# Altium footprint library 1206 - Sense.PcbLib: 1 footprints
Each footprint in its own frame and in the unit in brackets; x right, y up, seen from the top. Pads: shape width x height; smd on the part's side, far side on the other; paste and mask are expansions set on the pad; w line width, h text height; cw(c..) or ccw(c..) is an arc to the next point about the centre after c.
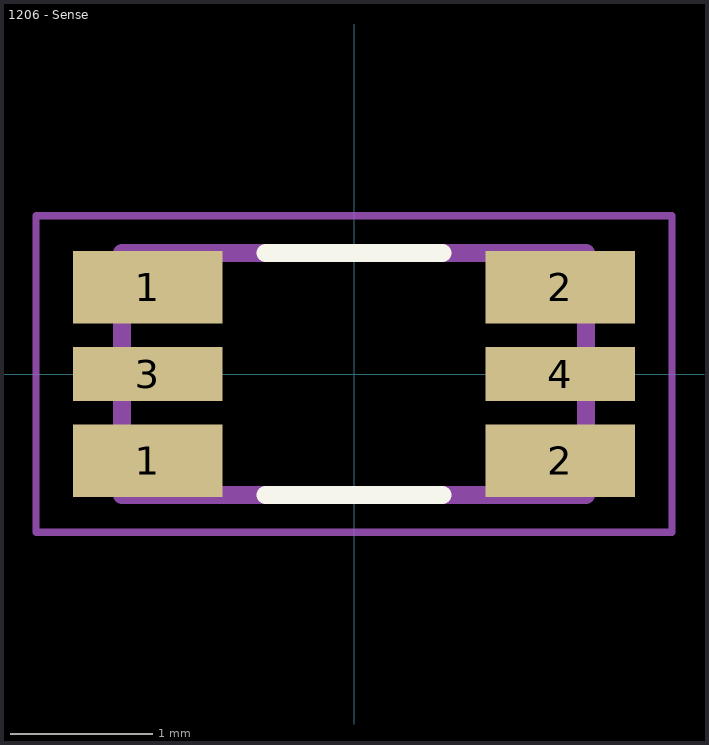
[diagram p0: the footprint, top view; thin cyan lines are the x and y axes]

## 1206 - Sense [mil] "4-Wire Sense Footprint"
pads (6):
  rect 41.34x20 smd: 1(-57,-24) 1(-57,24) 2(57,-24) 2(57,24)
  rect 41.34x15 smd paste+0: 3(-57,0) 4(57,0)
Top Overlay:
  lines w5: -24.41,-33.46 24.41,-33.46 ; -24.41,33.46 24.41,33.46
Mechanical 4:
  lines w5: -64.17,-33.46 64.17,-33.46 ; -64.17,-33.46 -64.17,33.46 ; -64.17,-33.46 64.17,-33.46 ; -64.17,-33.46 -64.17,33.46 ; -64.17,33.46 64.17,33.46 ; -64.17,33.46 64.17,33.46 ; 64.17,-33.46 64.17,33.46 ; 64.17,-33.46 64.17,33.46
Mechanical 15:
  lines w1.97: -87.99,-43.78 -87.99,43.78 87.99,43.78 87.99,-43.78 -87.99,-43.78